# Altium integrated library Atmega328p.IntLib: 1 symbol
Pins are listed as number, name and electrical type; pins without a type are passive.

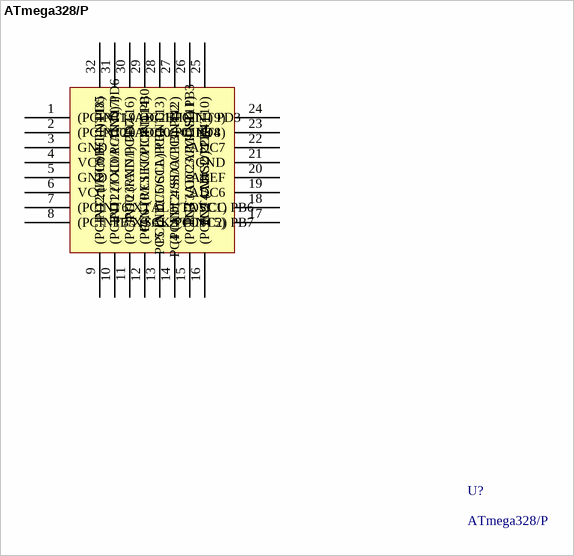
[diagram p0: symbol ATmega328/P]

## ATmega328/P
designator U?
ComponentLink1Description: Datasheet; ComponentLink1URL: https://datasheet.octopart.com/ATMEGA328-AU-Microchip-datasheet-65729177.pdf
footprint TQFP80P900X900X120-32N (TQFP, 32-Leads, Body 7.00x7.00mm, Pitch 0.80mm, IPC Medium Density)
pins: 1 (PCINT19/OC2B/INT1) PD3, 2 (PCINT20/XCK/T0) PD4, 3 GND, 4 VCC, 5 GND, 6 VCC, 7 (PCINT6/XTAL1/TOSC1) PB6, 8 (PCINT7/XTAL2/TOSC2) PB7, 9 (PCINT21/OC0B/T1) PD5, 10 (PCINT22/OC0A/AIN0) PD6, 11 (PCINT23/AIN1) PD7, 12 (PCINT0/CLKO/ICP1) PB0, 13 PCINT1/OC1A) PB1, 14 (PCINT2/SS/OC1B) PB2, 15 (PCINT3/OC2A/MOSI) PB3, 16 (PCINT4/MISO) PB4, 17 PB5 (SCK/PCINT5), 18 AVCC, 19 ADC6, 20 AREF, 21 GND, 22 ADC7, 23 PC0 (ADC0/PCINT8), 24 PC1 (ADC1/PCINT9), 25 PC2 (ADC2/PCINT10), 26 PC3 (ADC3/PCINT11), 27 PC4 (ADC4/SDA/PCINT12), 28 PC5 (ADC5/SCL/PCINT13), 29 PC6 (RESET/PCINT14), 30 PD0 (RXD/PCINT16), 31 PD1 (TXD/PCINT17), 32 PD2 (INT0/PCINT18)